# Altium footprint library 电阻.PcbLib: 42 footprints (part 2 of 3)
Each footprint in its own frame and in the unit in brackets; x right, y up, seen from the top. Pads: shape width x height; smd on the part's side, far side on the other; paste and mask are expansions set on the pad; w line width, h text height; cw(c..) or ccw(c..) is an arc to the next point about the centre after c.
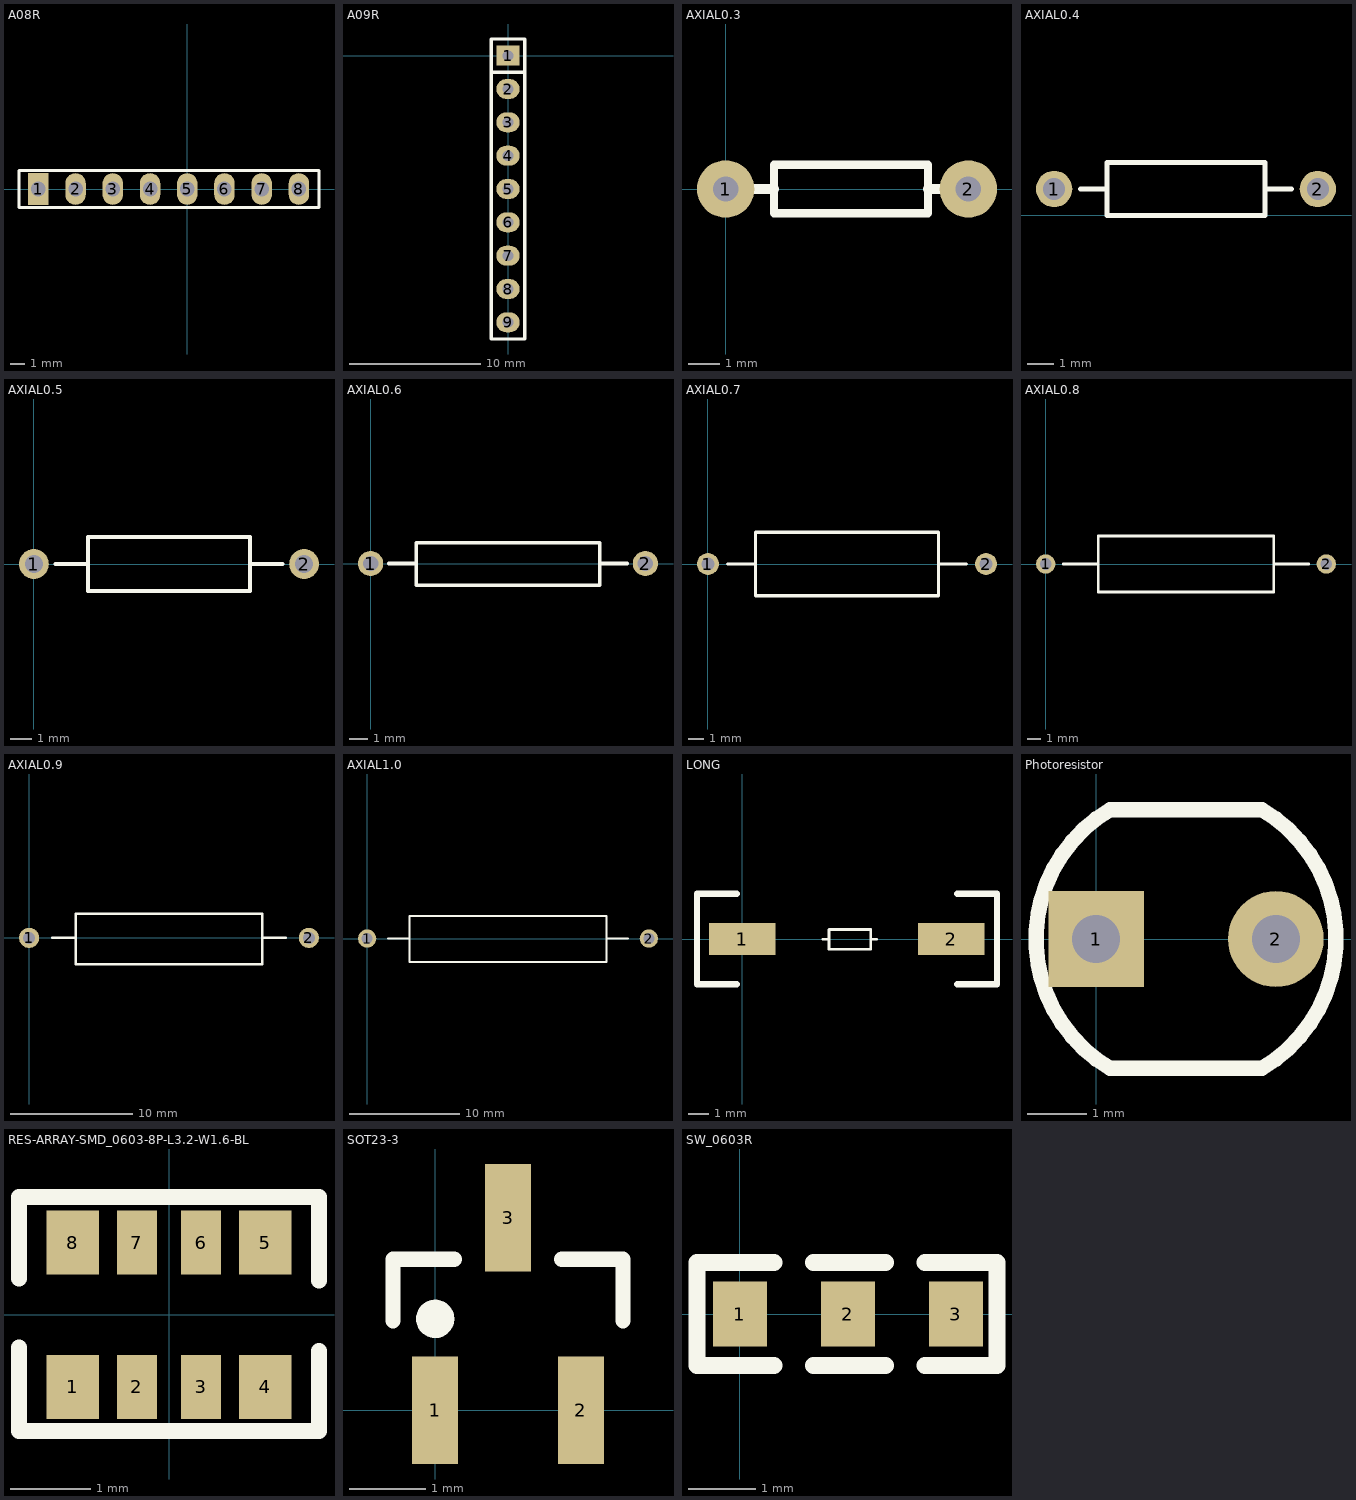
[diagram p1: the footprints below, top view; thin cyan lines are the x and y axes]

## A08R [mil]
pads (8):
  rect 55x85 hole 39: 1(-400,0)
  oval 55x85 hole 39: 2(-300,0) 3(-200,0) 4(-100,0) 5(0,0) 6(100,0) 7(200,0) 8(300,0)
Top Overlay:
  lines w7.87: -452,-50 -452,50 -352,50 -300,50 354,50 354,-50 -452,-50
3D body "User Library-4600H Series (Bourns).step": height 306.75, standoff -173.31, extent -449.02,-50 349.02,48.03

## A09R [mil]
pads (9):
  rect 70x60 hole 32: 1(0,0)
  oval 70x60 hole 32: 2(0,-100) 3(0,-200) 4(0,-300) 5(0,-400) 6(0,-500) 7(0,-600) 8(0,-700) 9(0,-800)
Top Overlay:
  lines w10: -50,-50 50,-50 ; -50,-850 50,-850 50,50 -50,50 -50,-850
3D body "Resistor array 9pin.step": height 169.29, standoff -165.35, extent -24.21,-852.91 25,32.92

## AXIAL0.3 [mm]
pads (2):
  round 1.8 hole 0.8: 1(0,0) 2(7.62,0)
Top Overlay:
  lines w0.254: 1.524,-0.762 6.35,-0.762 6.35,0.762 1.524,0.762 1.524,-0.762
  lines w0.305: 0.762,0 1.524,0 ; 6.35,0 6.858,0
3D body "RESISTOR 7_62MM DIP.step": height 1.25, standoff -2.75, extent -0.24,-1 7.86,1

## AXIAL0.4 [mm] "1/4W/1/2W"
height 2.032
pads (2):
  round 1.4 hole 0.85: 1(3.302,1.016) 2(13.462,1.016)
Top Overlay:
  lines w0.2: 4.318,1.016 5.334,1.016 ; 11.43,1.016 12.446,1.016 ; 5.334,0 5.334,2.032 11.43,2.032 11.43,0 5.334,0
3D body "AXIAL-0.4-0.25W.STEP": height 2.63, standoff -2.64, extent 3.002,-0.244 13.762,2.276

## AXIAL0.5 [mm] "1/2W/1W"
height 2.54
pads (2):
  round 1.4 hole 0.85: 1(0,0) 2(12.7,0)
Top Overlay:
  lines w0.2: 1.016,0 2.54,0 ; 10.16,0 11.684,0 ; 2.54,-1.27 10.16,-1.27 10.16,1.27 2.54,1.27 2.54,-1.27
3D body "User Library-Resistencia 0_5.STEP": height 3.1, standoff -1.5, extent -0.381,-1.461 13.081,1.397

## AXIAL0.6 [mm] "Variable Resistor; 2 Leads"
height 2.54
pads (2):
  round 1.4 hole 0.85: 1(0,0) 2(15.24,0)
Top Overlay:
  lines w0.2: 1.016,0 2.54,0 ; 12.7,0 14.224,0 ; 2.54,-1.194 12.7,-1.194 12.7,1.143 2.54,1.143 2.54,-1.194
3D body "AXIAL06.STEP": height 2.5, standoff -0.8, extent -0.117,-1.351 15.443,1.249

## AXIAL0.7 [mm] "Variable Resistor; 2 Leads"
height 4.064
pads (2):
  round 1.4 hole 0.85: 1(0,0) 2(17.78,0)
Top Overlay:
  lines w0.2: 1.27,0 3.048,0 ; 14.732,0 16.51,0 ; 3.048,-2.032 14.732,-2.032 14.732,2.032 3.048,2.032 3.048,-2.032
3D body "AXIAL07.STEP": height 4.3, standoff -1, extent -0.324,-2.413 18.136,2.187

## AXIAL0.8 [mm] "Adjustable Inductor; 2 Leads"
height 4.064
pads (2):
  round 1.4 hole 0.85: 1(0,0) 2(20.32,0)
Top Overlay:
  lines w0.2: 1.27,0 3.81,0 ; 16.51,0 19.05,0 ; 3.81,-2.032 16.51,-2.032 16.51,2.032 3.81,2.032 3.81,-2.032
3D body "AXIAL08.STEP": height 4.3, standoff -1, extent -0.348,-2.337 20.752,2.263

## AXIAL0.9 [mm] "Magnetic-Core Inductor; 2 Leads"
height 5.08
pads (2):
  round 1.65 hole 1: 1(0,0) 2(22.86,0)
Top Overlay:
  lines w0.2: 1.905,0 3.81,0 ; 19.05,0 20.955,0 ; 3.81,-2.159 19.05,-2.159 19.05,1.981 3.81,1.981 3.81,-2.159
3D body "AXIAL09.STEP": height 4.3, standoff -1, extent -0.459,-2.362 23.241,2.238

## AXIAL1.0 [mm] "Adjustable Magnetic-Core Inductor; 2 Leads"
height 7.62
pads (2):
  round 1.65 hole 1: 1(0,0) 2(25.4,0)
Top Overlay:
  lines w0.2: 1.905,0 3.81,0 ; 21.59,0 23.495,0 ; 3.81,-2.108 21.59,-2.108 21.59,2.032 3.81,2.032 3.81,-2.108
3D body "AXIAL10.STEP": height 4.3, standoff -1, extent -0.368,-2.362 25.832,2.238

## LONG [mil]
pads (2):
  rect 125x60 smd: 1(0,0) 2(393.7,0)
Top Overlay:
  lines w5.12: 152,-0.61 163.63,-0.61 ; 242.37,-0.61 253,-0.61 ; 163.63,-19.31 242.37,-19.31 242.37,18.09 163.63,18.09 163.63,-19.31
  lines w12: -10,-85 -85,-85 -85,85 -10,85 ; 405,-85 480,-85 480,85 405,85

## PCBComponent_1 [mm]

## Photoresistor [mm]
pads (2):
  rect 1.6x1.6 hole 0.8: 1(0,0)
  round 1.6 hole 0.8: 2(3,0)
Top Overlay:
  lines w0.254: 0.23,-2.159 cw(c1.5,0) 0.23,2.159 2.77,2.159 cw(c1.5,0) 2.77,-2.159 0.23,-2.159
3D body "RG5528-.STEP": height 1.9, standoff -3.45, extent -1,-2.159 4,2.141

## RES-ARRAY-SMD_0603-8P-L3.2-W1.6-BL [mm]
pads (8):
  rect 0.65x0.8 smd: 1(-1.2,-0.9) 4(1.2,-0.9) 5(1.2,0.9) 8(-1.2,0.9)
  rect 0.5x0.8 smd: 2(-0.4,-0.9) 3(0.4,-0.9) 6(0.4,0.9) 7(-0.4,0.9)
Top Overlay:
  lines w0.2: -1.87,-0.41 -1.87,-1.45 1.87,-1.45 1.87,-0.45 ; -1.87,0.45 -1.87,1.47 1.87,1.47 1.87,0.43

## SOT23-3 [mm]
pads (3):
  rect 0.6x1.4 smd: 1(0,0) 2(1.9,0) 3(0.95,2.514)
Top Overlay:
  circle w0.25: c0,1.194 r0.125
  lines w0.2: -0.55,1.17 -0.55,1.97 0.25,1.97 ; 1.65,1.97 2.45,1.97 2.45,1.17
3D body "SOT23-3.STEP": height 1.05, standoff 0, extent -0.587,-0.114 2.413,2.286

## SW_0603R [mm]
pads (3):
  rect 0.8x0.965 smd: 1(0,0) 2(1.6,0) 3(3.2,0)
Top Overlay:
  lines w0.254: 0.508,-0.762 -0.635,-0.762 -0.635,0.762 0.508,0.762 ; 1.092,-0.762 2.159,-0.762 ; 1.092,0.762 2.159,0.762 ; 2.743,-0.762 3.81,-0.762 3.81,0.762 2.743,0.762